# Altium footprint library Chip Cap 0402.PcbLib: 3 footprints
Each footprint in its own frame and in the unit in brackets; x right, y up, seen from the top. Pads: shape width x height; smd on the part's side, far side on the other; paste and mask are expansions set on the pad; w line width, h text height; cw(c..) or ccw(c..) is an arc to the next point about the centre after c.
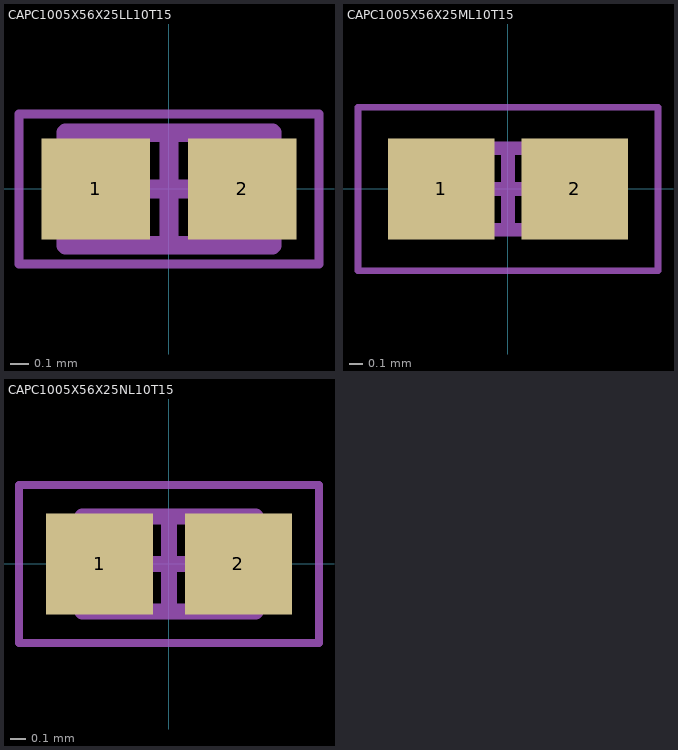
[diagram p0: the footprints below, top view; thin cyan lines are the x and y axes]

## CAPC1005X56X25LL10T15 [mm] "Chip Capacitor, 2-Leads, Body 1.00x0.50mm, IPC High Density"
height 0.56
pads (2):
  rect 0.58x0.54 smd: 1(-0.39,0) 2(0.39,0)
Mechanical 13:
  lines w0.1: -0.55,-0.3 -0.55,0.3 0.55,0.3 0.55,-0.3 -0.55,-0.3
Mechanical 15:
  lines w0.05: -0.8,-0.4 -0.8,0.4 0.8,0.4 0.8,-0.4 -0.8,-0.4
  lines w0.1: -0.3,0 0.3,0 ; 0,-0.3 0,0.3
3D body: height 0.56, standoff 0, extent -0.3,-0.3 0.3,0.3
3D body: height 0.56, standoff 0, extent -0.55,-0.3 -0.3,0.3
3D body: height 0.56, standoff 0, extent 0.3,-0.3 0.55,0.3

## CAPC1005X56X25ML10T15 [mm] "Chip Capacitor, 2-Leads, Body 1.00x0.50mm, IPC Low Density"
height 0.56
pads (2):
  rect 0.78x0.74 smd: 1(-0.49,0) 2(0.49,0)
Mechanical 13:
  lines w0.1: -0.55,-0.3 -0.55,0.3 0.55,0.3 0.55,-0.3 -0.55,-0.3
Mechanical 15:
  lines w0.05: -1.1,-0.6 -1.1,0.6 1.1,0.6 1.1,-0.6 -1.1,-0.6
  lines w0.1: -0.3,0 0.3,0 ; 0,-0.3 0,0.3
3D body: height 0.56, standoff 0, extent -0.3,-0.3 0.3,0.3
3D body: height 0.56, standoff 0, extent -0.55,-0.3 -0.3,0.3
3D body: height 0.56, standoff 0, extent 0.3,-0.3 0.55,0.3

## CAPC1005X56X25NL10T15 [mm] "Chip Capacitor, 2-Leads, Body 1.00x0.50mm, IPC Medium Density"
height 0.56
pads (2):
  rect 0.68x0.64 smd: 1(-0.44,0) 2(0.44,0)
Mechanical 13:
  lines w0.1: -0.55,-0.3 -0.55,0.3 0.55,0.3 0.55,-0.3 -0.55,-0.3
Mechanical 15:
  lines w0.05: -0.95,-0.5 -0.95,0.5 0.95,0.5 0.95,-0.5 -0.95,-0.5
  lines w0.1: -0.3,0 0.3,0 ; 0,-0.3 0,0.3
3D body: height 0.56, standoff 0, extent -0.3,-0.3 0.3,0.3
3D body: height 0.56, standoff 0, extent -0.55,-0.3 -0.3,0.3
3D body: height 0.56, standoff 0, extent 0.3,-0.3 0.55,0.3